# Altium schematic symbol library IND,6.8nH,700mA,Wirewound,0402.Schlib: 1 symbol
Pins are listed as number, name and electrical type; pins without a type are passive.

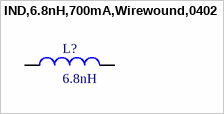
[diagram p0: symbol IND,6.8nH,700mA,Wirewound,0402]

## IND,6.8nH,700mA,Wirewound,0402
designator L?, comment 6.8nH
6.8 nH Unshielded Drum Core, Wirewound Inductor 700 mA 90mOhm Max 0402 (1005 Metric)
pins: 1, 2